# Altium footprint library Spark.PcbLib: 35 footprints (part 2 of 3)
Each footprint in its own frame and in the unit in brackets; x right, y up, seen from the top. Pads: shape width x height; smd on the part's side, far side on the other; paste and mask are expansions set on the pad; w line width, h text height; cw(c..) or ccw(c..) is an arc to the next point about the centre after c.
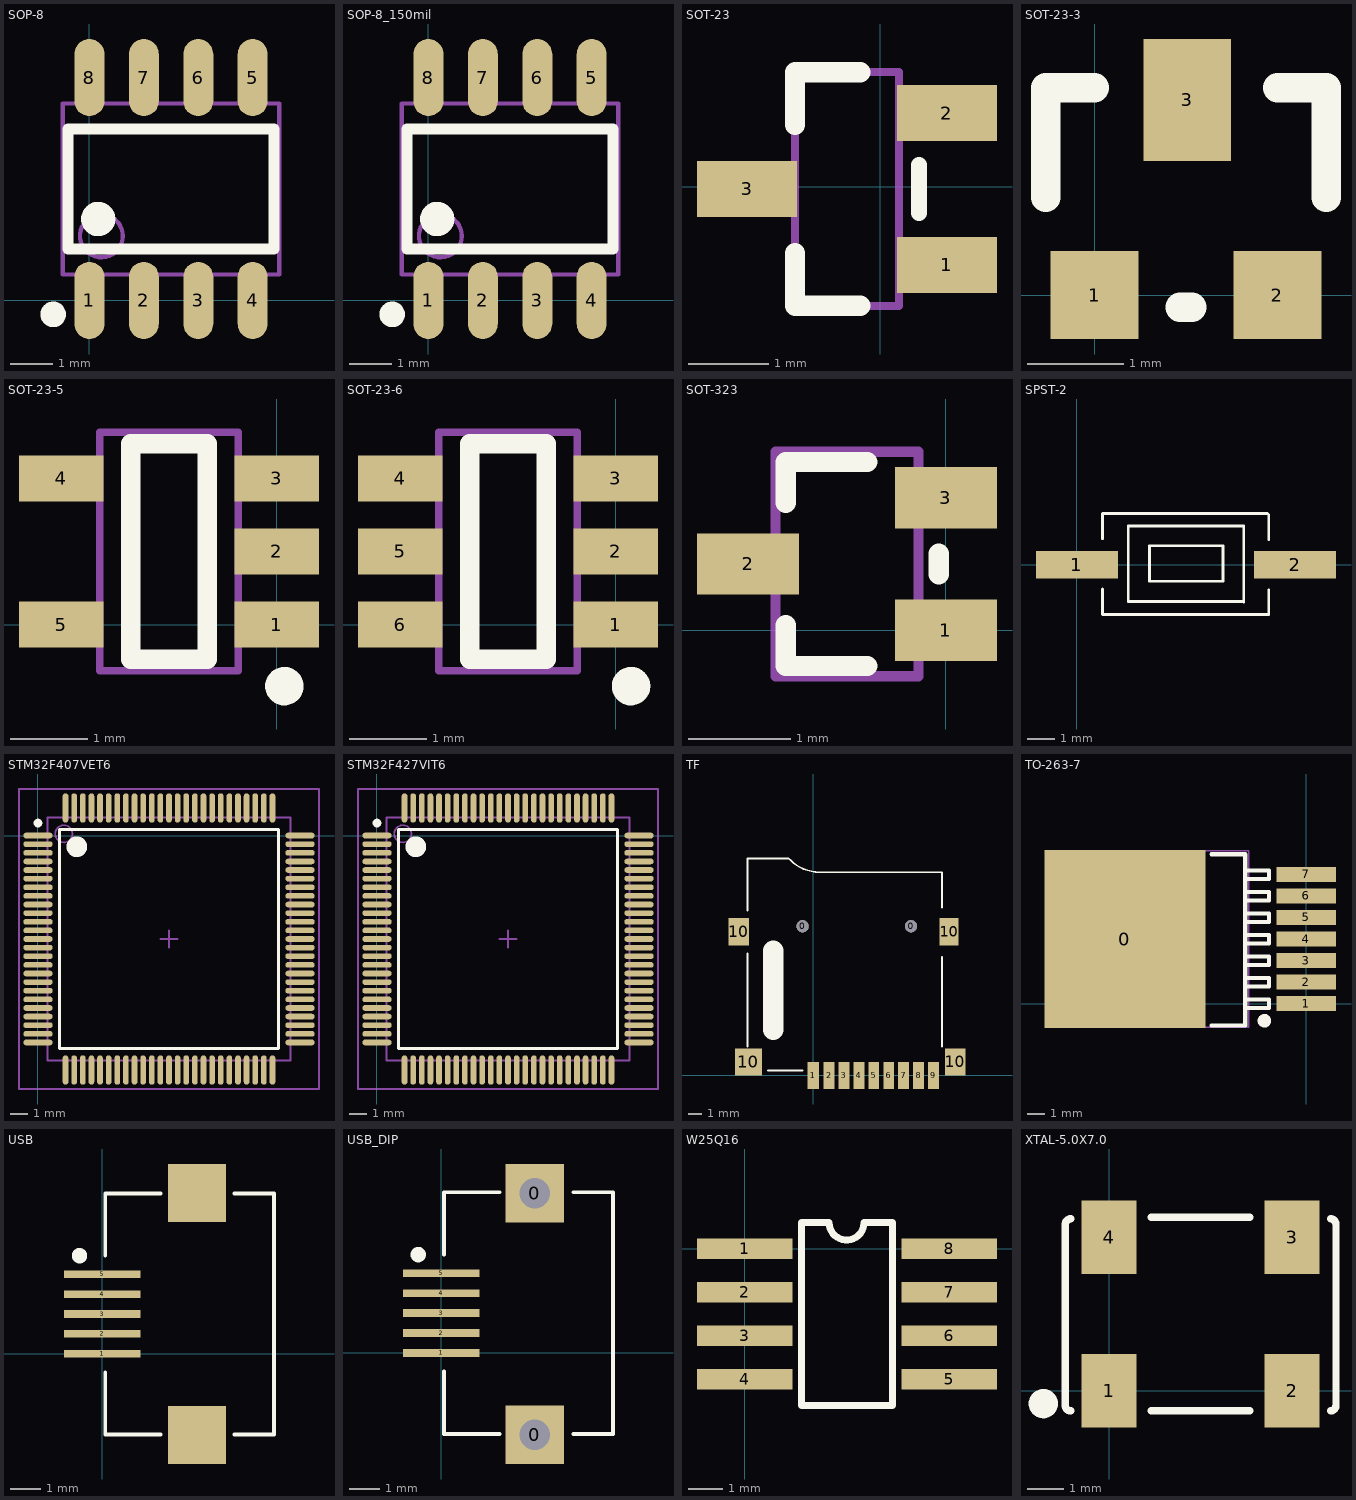
[diagram p1: the footprints below, top view; thin cyan lines are the x and y axes]

## SOP-8 [mm]
pads (8):
  oval 0.7x1.8 smd: 1(0,0) 2(1.27,0) 3(2.54,0) 4(3.81,0) 5(3.81,5.2) 6(2.54,5.2) 7(1.27,5.2) 8(0,5.2)
Top Overlay:
  circle w0.4: c0.205,1.9 r0.2
  circle w0.3: c-0.845,-0.325 r0.15
  lines w0.254: -0.495,1.2 -0.495,4 4.305,4 4.305,1.2 -0.495,1.2
Mechanical 13:
  circle w0.1: c0.28,1.505 r0.5
  lines w0.1: -0.62,0.605 -0.62,4.595 4.43,4.595 4.43,0.605 -0.62,0.605
3D body "User Library-SOIC-8-150.STEP": height 1.75, standoff 0, extent -0.595,-0.5 4.405,5.7

## SOP-8_150mil [mm] "150mil"
pads (8):
  oval 0.7x1.8 smd: 1(0,0) 2(1.27,0) 3(2.54,0) 4(3.81,0) 5(3.81,5.2) 6(2.54,5.2) 7(1.27,5.2) 8(0,5.2)
Top Overlay:
  circle w0.4: c0.205,1.9 r0.2
  circle w0.3: c-0.845,-0.325 r0.15
  lines w0.254: -0.495,1.2 -0.495,4 4.305,4 4.305,1.2 -0.495,1.2
Mechanical 13:
  circle w0.1: c0.28,1.505 r0.5
  lines w0.1: -0.62,0.605 -0.62,4.595 4.43,4.595 4.43,0.605 -0.62,0.605
3D body "User Library-SOIC-8-150.STEP": height 1.75, standoff 0, extent -0.595,-0.5 4.405,5.7

## SOT-23 [mm]
pads (3):
  rect 1.25x0.7 smd: 1(0.833,-0.978) 2(0.833,0.922) 3(-1.667,-0.028)
Top Overlay:
  lines w0.2: 0.483,-0.328 0.483,0.272
  lines w0.254: -1.067,-0.828 -1.067,-1.488 -0.252,-1.488 ; -0.252,1.432 -1.067,1.432 ; -1.067,0.772 -1.067,1.432 ; -1.067,0.772 -1.067,1.432 ; -1.067,0.772 -1.067,1.432
Mechanical 13:
  lines w0.1: -1.067,-1.488 -1.067,1.432 ; -1.067,-1.488 0.233,-1.488 ; -1.067,-1.488 -1.067,1.432 ; -1.067,-1.488 0.233,-1.488 ; -1.067,-1.488 0.233,-1.488 ; -1.067,-1.488 -1.067,1.432 ; -1.067,1.432 0.233,1.432 ; -1.067,1.432 0.233,1.432 ; -1.067,1.432 0.233,1.432 ; 0.233,-1.488 0.233,1.432 ; 0.233,-1.488 0.233,1.432 ; 0.233,-1.488 0.233,1.432
3D body "SOT-23.step": height 1.3, standoff 0, extent -1.917,-1.528 1.083,1.472

## SOT-23-3 [mil]
pads (3):
  rect 36x36 smd: 1(0,0) 2(75,0)
  rect 36x50 smd: 3(38,80)
Top Overlay:
  lines w12: -20,40 -20,85 0,85 ; 35,-5 40,-5 ; 75,85 95,85 95,40

## SOT-23-5 [mm]
pads (5):
  rect 1.1x0.6 smd: 1(0,0) 2(0,0.95) 3(0,1.9) 4(-2.8,1.9) 5(-2.8,0)
Top Overlay:
  circle w0.25: c0.1,-0.8 r0.125
  lines w0.254: -1.9,-0.45 -0.9,-0.45 -0.9,2.35 -1.9,2.35 -1.9,-0.45
Mechanical 13:
  lines w0.1: -2.3,-0.6 -2.3,2.5 -0.5,2.5 -0.5,-0.6 -2.3,-0.6

## SOT-23-6 [mm]
pads (6):
  rect 1.1x0.6 smd: 1(0,0) 2(0,0.95) 3(0,1.9) 4(-2.8,1.9) 5(-2.8,0.95) 6(-2.8,0)
Top Overlay:
  circle w0.25: c0.2,-0.8 r0.125
  lines w0.254: -1.9,-0.45 -0.9,-0.45 -0.9,2.35 -1.9,2.35 -1.9,-0.45
Mechanical 13:
  lines w0.1: -2.3,-0.6 -0.5,-0.6 -0.5,2.5 -2.3,2.5 -2.3,-0.6

## SOT-323 [mm]
pads (3):
  rect 1x0.6 smd: 1(0,0) 2(-1.94,0.65) 3(0,1.3)
Top Overlay:
  lines w0.2: -1.57,0.05 -1.57,-0.35 -0.77,-0.35 ; -1.57,1.25 -1.57,1.65 -0.77,1.65 ; -0.07,0.55 -0.07,0.75
Mechanical 13:
  lines w0.1: -1.67,-0.45 -1.67,1.75 -0.27,1.75 -0.27,-0.45 -1.67,-0.45
3D body "User Library-SOT323 (SC70-3)-1.STEP": height 1.1, standoff 0, extent -2.093,-0.45 0.152,1.75

## SPST-2 [mm]
pads (2):
  rect 3x1 smd: 1(0,0) 2(8,0)
Top Overlay:
  lines w0.1: 0.936,-1.829 7.036,-1.829 7.036,-0.914 ; 0.94,-1.82 0.94,-0.895 ; 0.94,0.955 0.94,1.88 6.985,1.88 7.036,1.829 7.036,0.914 ; 5.359,0.644 5.359,-0.61 2.659,-0.61 2.659,0.69 5.359,0.69 ; 1.88,-1.346 6.096,-1.346 6.121,-1.372 6.121,1.422 1.88,1.422 1.88,-1.346
3D body "SMD按键.STEP": height 2.5, standoff 0, extent 0.08,-1.854 7.97,1.996

## STM32F407VET6 [mm]
pads (100):
  oval 1.7x0.33 smd: 1(0,0) 2(0,-0.5) 3(0,-1) 4(0,-1.5) 5(0,-2) 6(0,-2.5) 7(0,-3) 8(0,-3.5) 9(0,-4) 10(0,-4.5) 11(0,-5) 12(0,-5.5) 13(0,-6) 14(0,-6.5) 15(0,-7) 16(0,-7.5) 17(0,-8) 18(0,-8.5) 19(0,-9) 20(0,-9.5) 21(0,-10) 22(0,-10.5) 23(0,-11) 24(0,-11.5) 25(0,-12) 51(15.2,-12) 52(15.2,-11.5) 53(15.2,-11) 54(15.2,-10.5) 55(15.2,-10) 56(15.2,-9.5) 57(15.2,-9) 58(15.2,-8.5) 59(15.2,-8) 60(15.2,-7.5) 61(15.2,-7) 62(15.2,-6.5) 63(15.2,-6) 64(15.2,-5.5) 65(15.2,-5) 66(15.2,-4.5) 67(15.2,-4) 68(15.2,-3.5) 69(15.2,-3) 70(15.2,-2.5) 71(15.2,-2) 72(15.2,-1.5) 73(15.2,-1) 74(15.2,-0.5) 75(15.2,0)
  oval 0.33x1.7 smd: 26(1.6,-13.6) 27(2.1,-13.6) 28(2.6,-13.6) 29(3.1,-13.6) 30(3.6,-13.6) 31(4.1,-13.6) 32(4.6,-13.6) 33(5.1,-13.6) 34(5.6,-13.6) 35(6.1,-13.6) 36(6.6,-13.6) 37(7.1,-13.6) 38(7.6,-13.6) 39(8.1,-13.6) 40(8.6,-13.6) 41(9.1,-13.6) 42(9.6,-13.6) 43(10.1,-13.6) 44(10.6,-13.6) 45(11.1,-13.6) 46(11.6,-13.6) 47(12.1,-13.6) 48(12.6,-13.6) 49(13.1,-13.6) 50(13.6,-13.6) 76(13.6,1.6) 77(13.1,1.6) 78(12.6,1.6) 79(12.1,1.6) 80(11.6,1.6) 81(11.1,1.6) 82(10.6,1.6) 83(10.1,1.6) 84(9.6,1.6) 85(9.1,1.6) 86(8.6,1.6) 87(8.1,1.6) 88(7.6,1.6) 89(7.1,1.6) 90(6.6,1.6) 91(6.1,1.6) 92(5.6,1.6) 93(5.1,1.6) 94(4.6,1.6) 95(4.1,1.6) 96(3.6,1.6) 97(3.1,1.6) 98(2.6,1.6) 99(2.1,1.6) 100(1.6,1.6)
Top Overlay:
  circle w0.25: c0,0.725 r0.125
  circle w0.6: c2.25,-0.65 r0.3
  lines w0.2: 1.25,-12.35 1.25,0.35 13.95,0.35 13.95,-12.35 1.25,-12.35
Mechanical 13:
  circle w0.1: c1.5,0.1 r0.5
  lines w0.1: 0.55,-13.05 0.55,1.05 14.65,1.05 14.65,-13.05 0.55,-13.05
Mechanical 15:
  lines w0.1: 7.1,-6 8.1,-6 ; 7.6,-6.5 7.6,-5.5 ; -1.1,-14.7 -1.1,2.7 16.3,2.7 16.3,-14.7 -1.1,-14.7
3D body: height 1.6, standoff 0.05, extent 0.55,-13.05 14.65,1.05

## STM32F427VIT6 [mm]
pads (100):
  oval 1.7x0.33 smd: 1(0,0) 2(0,-0.5) 3(0,-1) 4(0,-1.5) 5(0,-2) 6(0,-2.5) 7(0,-3) 8(0,-3.5) 9(0,-4) 10(0,-4.5) 11(0,-5) 12(0,-5.5) 13(0,-6) 14(0,-6.5) 15(0,-7) 16(0,-7.5) 17(0,-8) 18(0,-8.5) 19(0,-9) 20(0,-9.5) 21(0,-10) 22(0,-10.5) 23(0,-11) 24(0,-11.5) 25(0,-12) 51(15.2,-12) 52(15.2,-11.5) 53(15.2,-11) 54(15.2,-10.5) 55(15.2,-10) 56(15.2,-9.5) 57(15.2,-9) 58(15.2,-8.5) 59(15.2,-8) 60(15.2,-7.5) 61(15.2,-7) 62(15.2,-6.5) 63(15.2,-6) 64(15.2,-5.5) 65(15.2,-5) 66(15.2,-4.5) 67(15.2,-4) 68(15.2,-3.5) 69(15.2,-3) 70(15.2,-2.5) 71(15.2,-2) 72(15.2,-1.5) 73(15.2,-1) 74(15.2,-0.5) 75(15.2,0)
  oval 0.33x1.7 smd: 26(1.6,-13.6) 27(2.1,-13.6) 28(2.6,-13.6) 29(3.1,-13.6) 30(3.6,-13.6) 31(4.1,-13.6) 32(4.6,-13.6) 33(5.1,-13.6) 34(5.6,-13.6) 35(6.1,-13.6) 36(6.6,-13.6) 37(7.1,-13.6) 38(7.6,-13.6) 39(8.1,-13.6) 40(8.6,-13.6) 41(9.1,-13.6) 42(9.6,-13.6) 43(10.1,-13.6) 44(10.6,-13.6) 45(11.1,-13.6) 46(11.6,-13.6) 47(12.1,-13.6) 48(12.6,-13.6) 49(13.1,-13.6) 50(13.6,-13.6) 76(13.6,1.6) 77(13.1,1.6) 78(12.6,1.6) 79(12.1,1.6) 80(11.6,1.6) 81(11.1,1.6) 82(10.6,1.6) 83(10.1,1.6) 84(9.6,1.6) 85(9.1,1.6) 86(8.6,1.6) 87(8.1,1.6) 88(7.6,1.6) 89(7.1,1.6) 90(6.6,1.6) 91(6.1,1.6) 92(5.6,1.6) 93(5.1,1.6) 94(4.6,1.6) 95(4.1,1.6) 96(3.6,1.6) 97(3.1,1.6) 98(2.6,1.6) 99(2.1,1.6) 100(1.6,1.6)
Top Overlay:
  circle w0.25: c0,0.725 r0.125
  circle w0.6: c2.25,-0.65 r0.3
  lines w0.2: 1.25,-12.35 1.25,0.35 13.95,0.35 13.95,-12.35 1.25,-12.35
Mechanical 13:
  circle w0.1: c1.5,0.1 r0.5
  lines w0.1: 0.55,-13.05 0.55,1.05 14.65,1.05 14.65,-13.05 0.55,-13.05
Mechanical 15:
  lines w0.1: 7.1,-6 8.1,-6 ; 7.6,-6.5 7.6,-5.5 ; -1.1,-14.7 -1.1,2.7 16.3,2.7 16.3,-14.7 -1.1,-14.7
3D body: height 1.6, standoff 0.05, extent 0.55,-13.05 14.65,1.05

## TF [mm]
pads (15):
  round 0.9 hole 0.9 unplated: 0(-0.8,11) 0(7.2,11)
  rect 0.85x2 smd: 1(0,0)
  rect 0.8x2 smd: 2(1.15,0) 3(2.25,0) 4(3.35,0) 5(4.45,0) 6(5.55,0) 7(6.65,0) 8(7.75,0) 9(8.85,0)
  rect 1.5x2 smd: 10(-5.5,10.6) 10(10.45,1)
  rect 2x2 smd: 10(-4.8,1)
  rect 1.4x2 smd: 10(10,10.6)
Top Overlay:
  lines w0.127: -4.865,12.143 -4.865,15 ; -4.865,14.683 -4.865,16 -1.816,16 -1.714,15.898 ccw(c0.454,18.066) 0.454,15 1.74,15 9.486,15 9.486,12.397 ; -4.862,2.138 -4.862,8.996 ; 9.489,2.138 9.489,8.742
  lines w0.15: -3.338,0.36 -0.798,0.36
  lines w1.5: -2.959,3.38 -2.959,9.222

## TO-263-7 [mm]
pads (8):
  rect 9.5x10.5 smd: 0(-10.7,3.81)
  rect 3.5x0.9 smd: 1(0,0) 2(0,1.27) 3(0,2.54) 4(0,3.81) 5(0,5.08) 6(0,6.35) 7(0,7.62)
Top Overlay:
  circle w0.4: c-2.475,-1.015 r0.2
  lines w0.254: -5.6,-1.29 -3.6,-1.29 -3.6,8.81 -5.6,8.81 ; -3.6,-0.265 -2.2,-0.265 -2.2,0.235 -3.6,0.235 ; -3.6,1.005 -2.2,1.005 -2.2,1.505 -3.6,1.505 ; -3.6,2.275 -2.2,2.275 -2.2,2.775 -3.6,2.775 ; -3.6,3.545 -2.2,3.545 -2.2,4.045 -3.6,4.045 ; -3.6,4.815 -2.2,4.815 -2.2,5.315 -3.6,5.315 ; -3.6,6.085 -2.2,6.085 -2.2,6.585 -3.6,6.585 ; -3.6,7.355 -2.2,7.355 -2.2,7.855 -3.6,7.855
Mechanical 13:
  lines w0.1: -14.4,-1.39 -14.4,9.01 -3.4,9.01 -3.4,-1.39 -14.4,-1.39

## USB [mm]
pads (7):
  rect 2.5x0.25 smd: 1(0,0) 2(0,0.65) 3(0,1.3) 4(0,1.95) 5(0,2.6)
  rect 1.9x1.9 smd: ""(3.095,-2.65) ""(3.095,5.25)
Top Overlay:
  circle w0.25: c-0.748,3.205 r0.125
  lines w0.127: 0.092,-2.637 1.9,-2.637 ; 0.092,-2.6 0.092,-0.605 ; 0.092,3.205 0.092,5.2 ; 0.092,5.237 1.9,5.237 ; 4.314,-2.637 5.6,-2.637 ; 4.314,5.237 5.6,5.237 ; 5.6,-2.6 5.6,5.2
3D body "Micro USB.STP": height 2.71, standoff -0.23, extent 0.242,-2.703 5.672,5.277

## USB_DIP [mm]
pads (7):
  rect 1.9x1.9 hole 1: 0(3.048,-2.667) 0(3.048,5.207)
  rect 2.5x0.25 smd: 1(0,0) 2(0,0.65) 3(0,1.3) 4(0,1.95) 5(0,2.6)
Top Overlay:
  circle w0.25: c-0.748,3.205 r0.125
  lines w0.127: 0.092,-2.637 1.9,-2.637 ; 0.092,-2.6 0.092,-0.605 ; 0.092,3.205 0.092,5.2 ; 0.092,5.237 1.9,5.237 ; 4.314,-2.637 5.6,-2.637 ; 4.314,5.237 5.6,5.237 ; 5.6,-2.6 5.6,5.2
3D body "Micro USB.STP": height 2.71, standoff -0.23, extent 0.242,-2.703 5.672,5.277

## W25Q16 [mil]
pads (8):
  rect 110x24 smd: 1(0,0) 2(0,-50) 3(0,-100) 4(0,-150) 5(235,-150) 6(235,-100) 7(235,-50) 8(235,0)
Top Overlay:
  lines w8: 65,-180 65,30 97,30 ccw(c117,30) 137,30 170,30 170,-180 65,-180

## XTAL-5.0X7.0 [mm]
pads (4):
  rect 1.5x2 smd: 1(0,0) 2(5,0) 3(5,4.2) 4(0,4.2)
Top Overlay:
  circle w0.4: c-1.8,-0.35 r0.2
  lines w0.203: -1.05,-0.55 cw(c-1.05,-0.4) -1.2,-0.4 -1.2,2.05 -1.2,4.55 cw(c-1.05,4.55) -1.05,4.7 ; 1.15,-0.55 3.85,-0.55 ; 1.15,4.75 3.85,4.75 ; 6.05,-0.55 ccw(c6.05,-0.4) 6.2,-0.4 6.2,2.1 6.2,4.55 ccw(c6.05,4.55) 6.05,4.7
3D body "jz.STEP": height 1.5, standoff 0, extent -1.05,-0.45 5.95,4.55